# Altium footprint library MFU0603FF00500P500.PcbLib: 1 footprints
Each footprint in its own frame and in the unit in brackets; x right, y up, seen from the top. Pads: shape width x height; smd on the part's side, far side on the other; paste and mask are expansions set on the pad; w line width, h text height; cw(c..) or ccw(c..) is an arc to the next point about the centre after c.
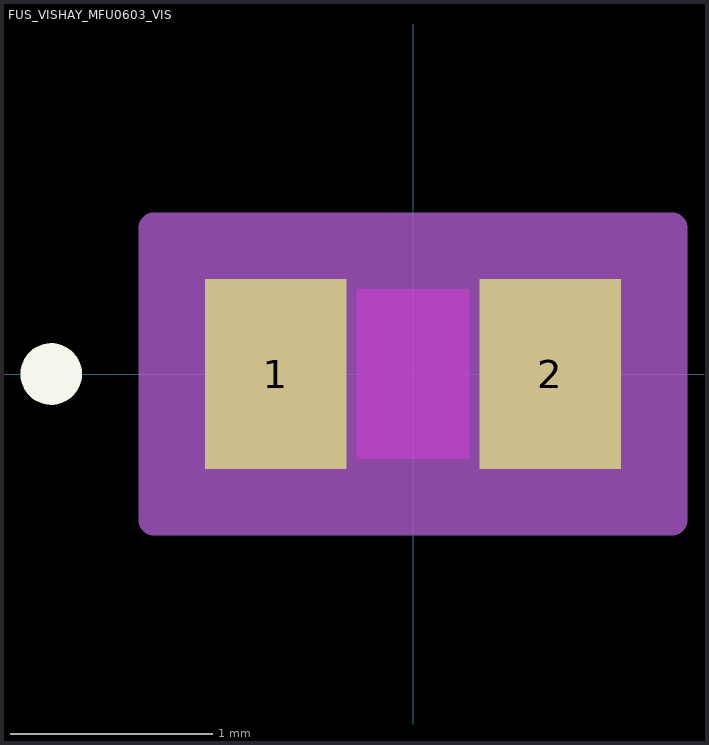
[diagram p0: the footprint, top view; thin cyan lines are the x and y axes]

## FUS_VISHAY_MFU0603_VIS [mil]
pads (2):
  rect 27.5x37 smd paste+0 mask+0: 1(-26.75,0) 2(26.75,0)
Top Layer keep-out:
  region: -11,-16.5 -11,16.5 11,16.5 11,-16.5
Top Overlay:
  circle w6: c-70.5,0 r3
Mechanical 13:
  circle w0: c-28.5,0 r3
  lines w1: -31.5,-18.5 31.5,-18.5 31.5,18.5 -31.5,18.5 -31.5,-18.5
Mechanical 15:
  region: -41.5,-28.5 -50.5,-28.5 -50.5,28.5 -41.5,28.5 41.5,28.5 50.5,28.5 50.5,-28.5 41.5,-28.5
  lines w6: -41.5,-28.5 -50.5,-28.5 -50.5,28.5 -41.5,28.5 ; -41.5,-28.5 -41.5,-28.5 ; -41.5,-28.5 41.5,-28.5 ; -41.5,28.5 -41.5,28.5 ; -41.5,28.5 41.5,28.5 ; 41.5,-28.5 50.5,-28.5 50.5,28.5 41.5,28.5 ; 41.5,-28.5 41.5,-28.5 ; 41.5,28.5 41.5,28.5
3D body "FUS_VISHAY_MFU0603_VIS.step": height 22.09, standoff -0.12, extent -31.5,-18.58 31.5,18.58